# EAGLE library part RWS-434 (library RFmodule)
RF Module
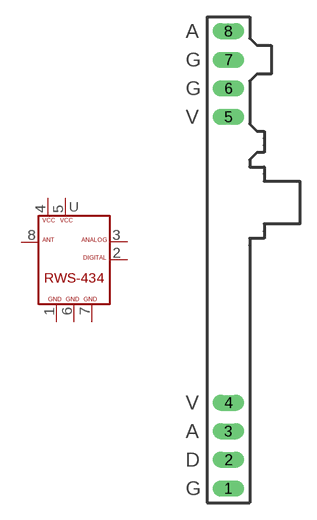
[diagram p0: symbol with the pads of RWS-434; footprint RWS-434]

Designator prefix -

## RWS-434  [RWS-434]
1  1
2  2
3  3
4  4
5  5
6  6
7  7
8  8

## Footprint RWS-434 (pad centres in mm)
drill 0.9 pad 1.27 long: 1 0,-20.32; 2 0,-17.78; 3 0,-15.24; 4 0,-12.7; 5 0,12.7; 6 0,15.24; 7 0,17.78; 8 0,20.32